# Altium footprint library HEADER_M_1x4_2.54.PcbLib: 1 footprints
Each footprint in its own frame and in the unit in brackets; x right, y up, seen from the top. Pads: shape width x height; smd on the part's side, far side on the other; paste and mask are expansions set on the pad; w line width, h text height; cw(c..) or ccw(c..) is an arc to the next point about the centre after c.
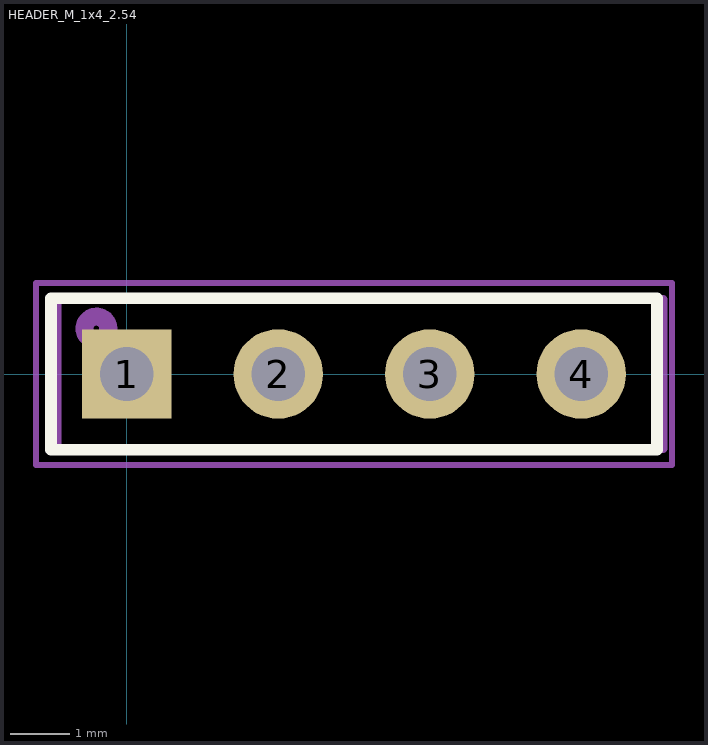
[diagram p0: the footprint, top view; thin cyan lines are the x and y axes]

## HEADER_M_1x4_2.54 [mm] "Connector; Header; 4 Position; Male"
pads (4):
  rect 1.5x1.5 hole 0.9: 1(0,0)
  round 1.5 hole 0.9: 2(2.54,0) 3(5.08,0) 4(7.62,0)
Top Overlay:
  lines w0.2: -1.27,-1.27 8.89,-1.27 8.89,1.27 -1.27,1.27 -1.27,-1.27
Top Assembly:
  circle w0.3: c-0.508,0.762 r0.2
  lines w0.15: -1.17,-1.246 8.99,-1.246 8.99,1.253 -1.17,1.253 -1.17,-1.246
  text "'.Designator'" at 1.216,-0.127 h0.5
Top Courtyard:
  lines w0.1: -1.524,-1.524 9.144,-1.524 9.144,1.524 -1.524,1.524 -1.524,-1.524
3D body "pin_header_aw140-eg-g04d.stp": height 8.2, standoff -3, extent -1.17,-1.246 8.99,1.253